# Altium schematic symbol library Schlib1.SchLib: 11 symbols
Pins are listed as number, name and electrical type; pins without a type are passive.

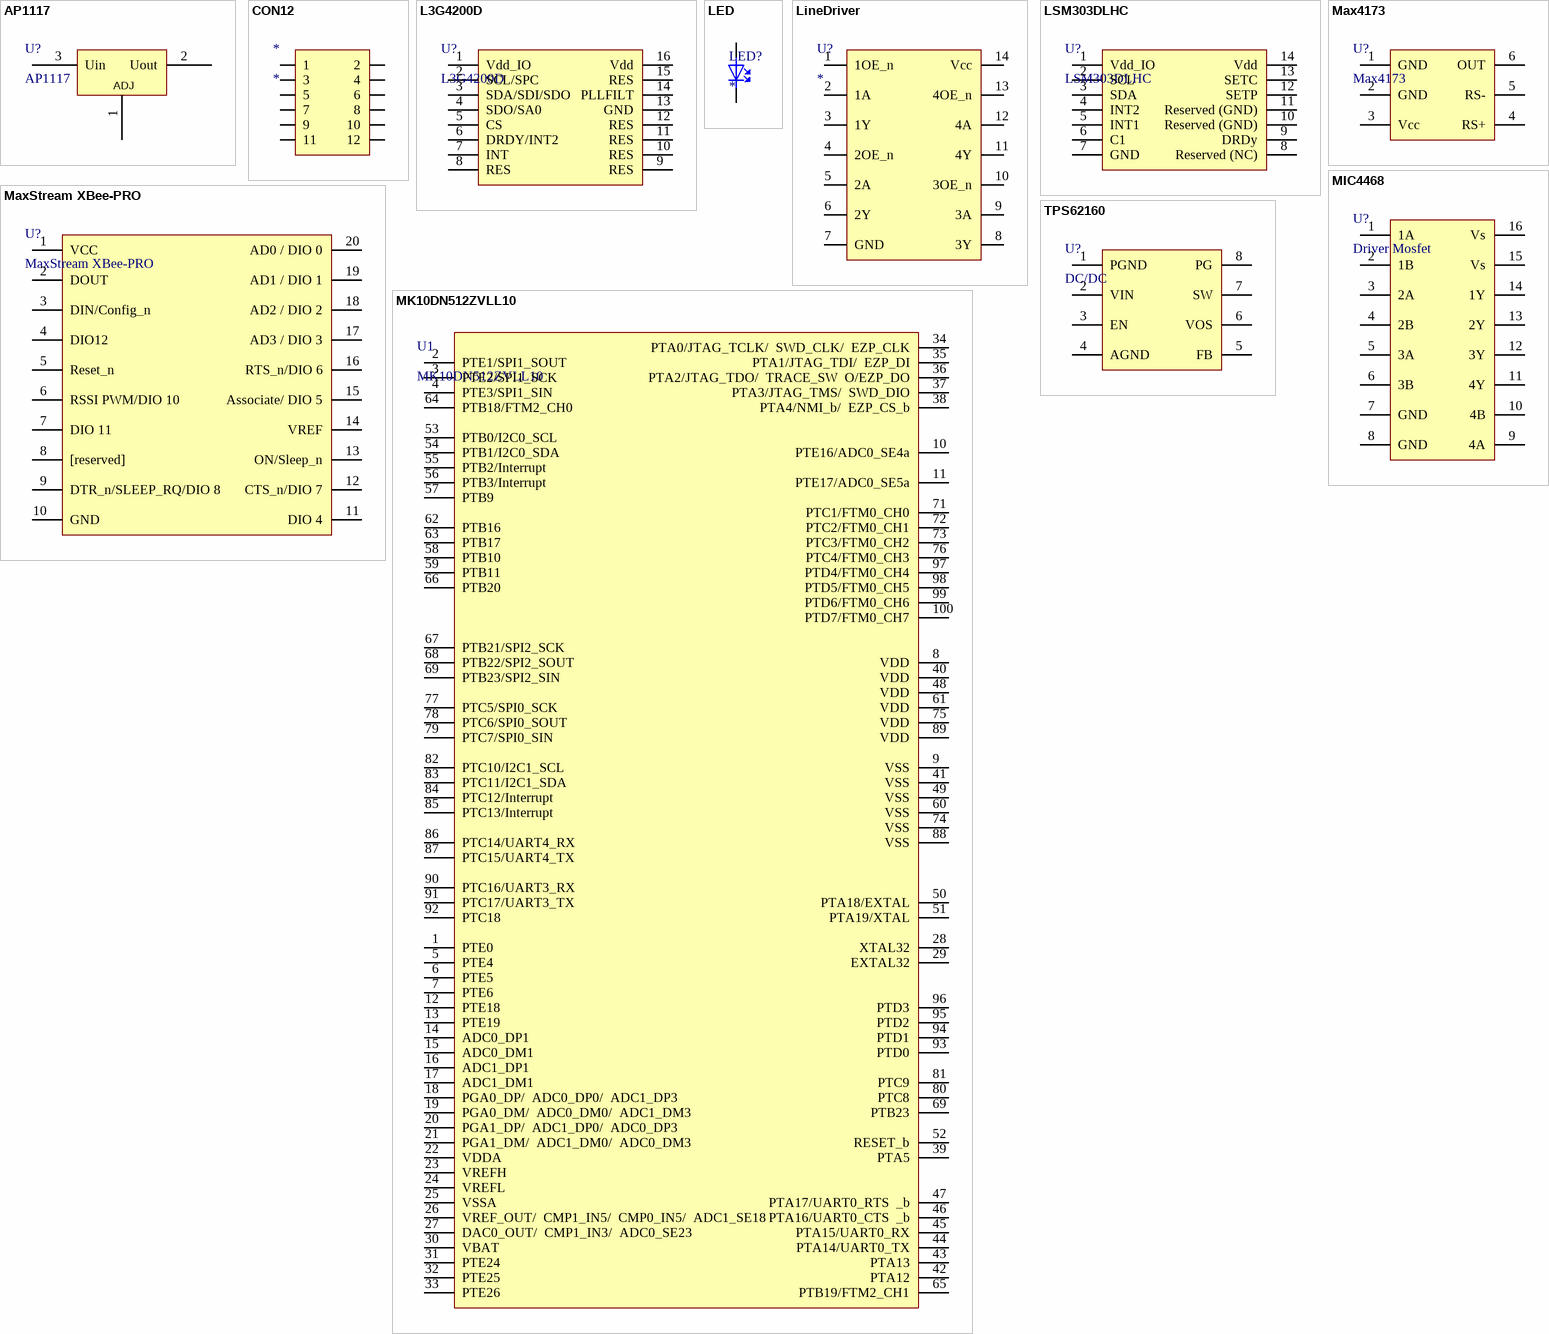
[diagram p0: symbols AP1117 to TPS62160]

## AP1117
designator U?
Régulateur de tension linéaire
footprint TO-220AB (TO, Thru-Hole, Vertical, Heatsink Mounted; 3 In-Line Leads; Pitch 2.54 mm)
pins: 1 GND, 2 Uout, 3 Uin
text: ADJ

## CON12
designator *
pins: 1, 2, 3, 4, 5, 6, 7, 8, 9, 10, 11, 12

## L3G4200D
designator U?
Gyroscope
footprint LGA-16
pins: 1 Vdd_IO, 2 SCL/SPC, 3 SDA/SDI/SDO, 4 SDO/SA0, 5 CS, 6 DRDY/INT2, 7 INT, 8 RES, 9 RES, 10 RES, 11 RES, 12 RES, 13 GND, 14 PLLFILT, 15 RES, 16 Vdd

## LED
designator LED?
footprint 060301_led (LED)
pins: 1 ANODE, 2 CATHODE

## LineDriver
designator U?
pins: 1 1OE_n, 2 1A, 3 1Y, 4 2OE_n, 5 2A, 6 2Y, 7 GND, 8 3Y, 9 3A, 10 3OE_n, 11 4Y, 12 4A, 13 4OE_n, 14 Vcc

## LSM303DLHC
designator U?
Accéléromètre et magnétomètre
footprint LGA-14L
pins: 1 Vdd_IO, 2 SCL, 3 SDA, 4 INT2, 5 INT1, 6 C1, 7 GND, 8 Reserved (NC), 9 DRDy, 10 Reserved (GND), 11 Reserved (GND), 12 SETP, 13 SETC, 14 Vdd

## Max4173
designator U?
ificateur capteur de courant
footprint SOT26A-6AM
pins: 1 GND, 2 GND, 3 Vcc, 4 RS+, 5 RS-, 6 OUT

## MaxStream XBee-PRO
designator U?
footprint XBee-Pro
pins: 1 VCC, 2 DOUT, 3 DIN/Config_n, 4 DIO12, 5 Reset_n, 6 RSSI PWM/DIO 10, 7 DIO 11, 8 [reserved], 9 DTR_n/SLEEP_RQ/DIO 8, 10 GND, 11 DIO 4, 12 CTS_n/DIO 7, 13 ON/Sleep_n, 14 VREF, 15 Associate/ DIO 5, 16 RTS_n/DIO 6, 17 AD3 / DIO 3, 18 AD2 / DIO 2, 19 AD1 / DIO 1, 20 AD0 / DIO 0

## MIC4468
designator U?, comment Driver Mosfet
footprint SOIC127P1030-16M (SOIC, 16-Leads, Body 10.3x7.5mm, Pitch 1.27mm, IPC Low Density)
pins: 1 1A, 2 1B, 3 2A, 4 2B, 5 3A, 6 3B, 7 GND, 8 GND, 9 4A, 10 4B, 11 4Y, 12 3Y, 13 2Y, 14 1Y, 15 Vs, 16 Vs

## MK10DN512ZVLL10
designator U1
footprint QFP100-1
pins: 1 PTE0, 2 PTE1/SPI1_SOUT, 3 PTE2/SPI1_SCK, 4 PTE3/SPI1_SIN, 5 PTE4, 6 PTE5, 7 PTE6, 8 VDD, 9 VSS, 10 PTE16/ADC0_SE4a, 11 PTE17/ADC0_SE5a, 12 PTE18, 13 PTE19, 14 ADC0_DP1, 15 ADC0_DM1, 16 ADC1_DP1, 17 ADC1_DM1, 18 PGA0_DP/  ADC0_DP0/  ADC1_DP3, 19 PGA0_DM/  ADC0_DM0/  ADC1_DM3, 20 PGA1_DP/  ADC1_DP0/  ADC0_DP3, 21 PGA1_DM/  ADC1_DM0/  ADC0_DM3, 22 VDDA, 23 VREFH, 24 VREFL, 25 VSSA, 26 VREF_OUT/  CMP1_IN5/  CMP0_IN5/  ADC1_SE18, 27 DAC0_OUT/  CMP1_IN3/  ADC0_SE23, 28 XTAL32, 29 EXTAL32, 30 VBAT, 31 PTE24, 32 PTE25, 33 PTE26, 34 PTA0/JTAG_TCLK/  SWD_CLK/  EZP_CLK, 35 PTA1/JTAG_TDI/  EZP_DI, 36 PTA2/JTAG_TDO/  TRACE_SW  O/EZP_DO, 37 PTA3/JTAG_TMS/  SWD_DIO, 38 PTA4/NMI_b/  EZP_CS_b, 39 PTA5, 40 VDD, 41 VSS, 42 PTA12, 43 PTA13, 44 PTA14/UART0_TX, 45 PTA15/UART0_RX, 46 PTA16/UART0_CTS  _b, 47 PTA17/UART0_RTS  _b, 48 VDD, 49 VSS, 50 PTA18/EXTAL, 51 PTA19/XTAL, 52 RESET_b, 53 PTB0/I2C0_SCL, 54 PTB1/I2C0_SDA, 55 PTB2/Interrupt, 56 PTB3/Interrupt, 57 PTB9, 58 PTB10, 59 PTB11, 60 VSS, 61 VDD, 62 PTB16, 63 PTB17, 64 PTB18/FTM2_CH0, 65 PTB19/FTM2_CH1, 66 PTB20, 67 PTB21/SPI2_SCK, 68 PTB22/SPI2_SOUT, 69 PTB23/SPI2_SIN, 69 PTB23, 71 PTC1/FTM0_CH0, 72 PTC2/FTM0_CH1, 73 PTC3/FTM0_CH2, 74 VSS, 75 VDD, 76 PTC4/FTM0_CH3, 77 PTC5/SPI0_SCK, 78 PTC6/SPI0_SOUT, 79 PTC7/SPI0_SIN, 80 PTC8, 81 PTC9, 82 PTC10/I2C1_SCL, 83 PTC11/I2C1_SDA, 84 PTC12/Interrupt, 85 PTC13/Interrupt, 86 PTC14/UART4_RX, 87 PTC15/UART4_TX, 88 VSS, 89 VDD, 90 PTC16/UART3_RX, 91 PTC17/UART3_TX, 92 PTC18, 93 PTD0, 94 PTD1, 95 PTD2, 96 PTD3, 97 PTD4/FTM0_CH4, 98 PTD5/FTM0_CH5, 99 PTD6/FTM0_CH6, 100 PTD7/FTM0_CH7

## TPS62160
designator U?, comment DC/DC
TPS62162
footprint TSOP65P490-8AM (TSOP, 8-Leads, Body 3x3mm, Pitch 0.65mm, IPC Low Density)
pins: 1 PGND, 2 VIN, 3 EN, 4 AGND, 5 FB, 6 VOS, 7 SW, 8 PG